# EAGLE library part I__4529 (library ..SMD)
Dual 4-channel analog DATA SELECTOR
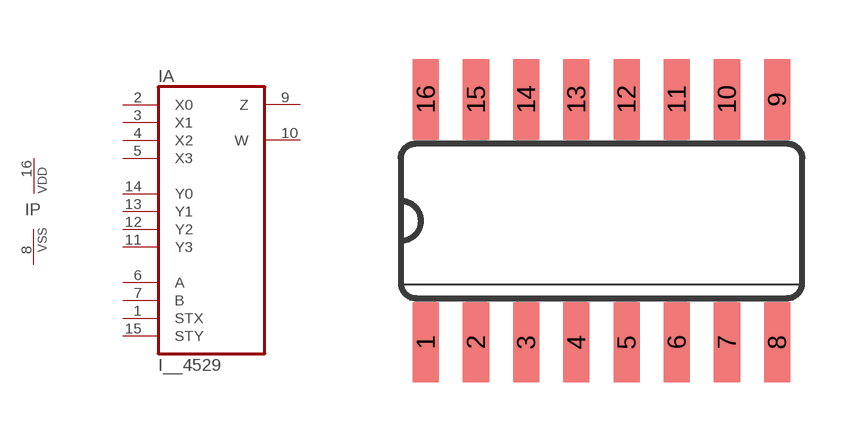
[diagram p113: symbol with the pads of SO16; footprint SO16]

Designator prefix I; gates A=4529 P=PWRN

## I__4529D  [SO16]
1  A:STX  in
2  A:X0  in
3  A:X1  in
4  A:X2  in
5  A:X3  in
6  A:A  in
7  A:B  in
8  P:VSS  pwr
9  A:Z  hiz
10  A:W  hiz
11  A:Y3  in
12  A:Y2  in
13  A:Y1  in
14  A:Y0  in
15  A:STY  in
16  P:VDD  pwr

## Footprint SO16 (pad centres in mm)
Small Outline Package 16
smd 0.66 x 2.032: 1 -4.445,-3.073; 2 -3.175,-3.073; 3 -1.905,-3.073; 4 -0.635,-3.073; 5 0.635,-3.073; 6 1.905,-3.073; 7 3.175,-3.073; 8 4.445,-3.073; 9 4.445,3.073; 10 3.175,3.073; 11 1.905,3.073; 12 0.635,3.073; 13 -0.635,3.073; 14 -1.905,3.073; 15 -3.175,3.073; 16 -4.445,3.073